# Altium footprint library AP101.PcbLib: 1 footprints
Each footprint in its own frame and in the unit in brackets; x right, y up, seen from the top. Pads: shape width x height; smd on the part's side, far side on the other; paste and mask are expansions set on the pad; w line width, h text height; cw(c..) or ccw(c..) is an arc to the next point about the centre after c.
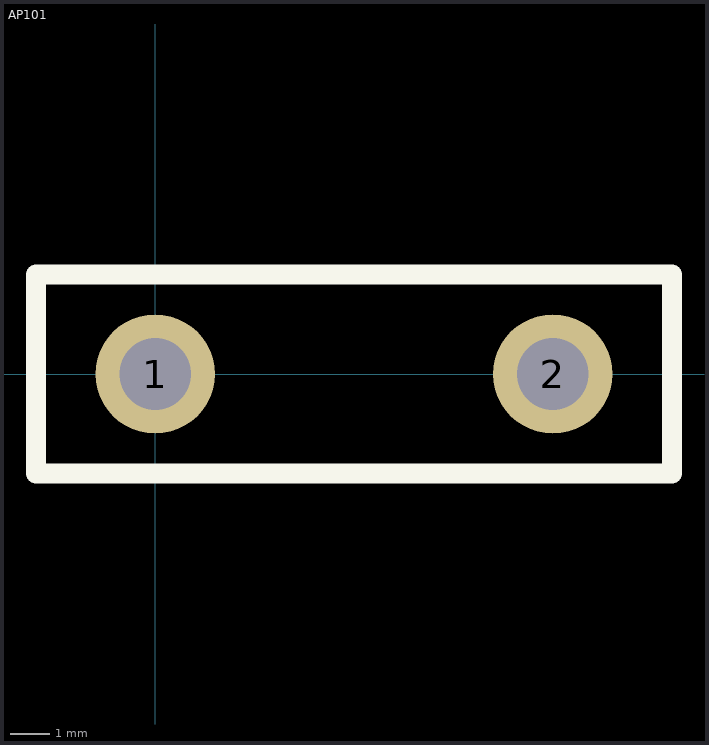
[diagram p0: the footprint, top view; thin cyan lines are the x and y axes]

## AP101 [mm] "100W Through Hole Resistor"
pads (2):
  round 3 hole 1.8: 1(0,0) 2(10,0)
Top Overlay:
  lines w0.5: -3,-2.5 -3,2.5 13,2.5 13,-2.5 -3,-2.5
3D body: height 24.5, standoff 0, extent -3,-2.5 13,2.5